# Altium footprint library Others_component.PcbLib: 4 footprints
Each footprint in its own frame and in the unit in brackets; x right, y up, seen from the top. Pads: shape width x height; smd on the part's side, far side on the other; paste and mask are expansions set on the pad; w line width, h text height; cw(c..) or ccw(c..) is an arc to the next point about the centre after c.
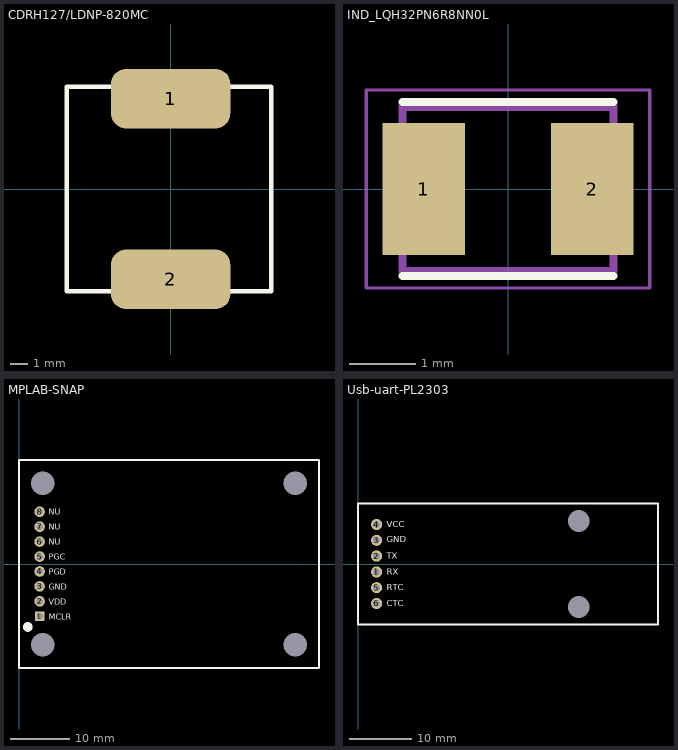
[diagram p0: the footprints below, top view; thin cyan lines are the x and y axes]

## CDRH127/LDNP-820MC [mm]
pads (2):
  rrect50% 7x3.5 smd: 1(0,5.3) 2(0,-5.3)
Top Overlay:
  pour cut-out: 0,0
  lines w0.254: 5.9,-6 -6.1,-6 -6.1,6 5.9,6 5.9,0 5.9,-6 ; 5.9,-6 5.9,-6

## IND_LQH32PN6R8NN0L [mm]
pads (2):
  rect 1.25x2 smd: 1(-1.275,0) 2(1.275,0)
Top Overlay:
  lines w0.127: -1.6,-1.32 1.6,-1.32 ; -1.6,1.32 1.6,1.32
Mechanical 13:
  lines w0.127: -1.6,-1.25 1.6,-1.25 1.6,1.25 -1.6,1.25 -1.6,-1.25
Mechanical 15:
  lines w0.05: -2.15,-1.5 2.15,-1.5 2.15,1.5 -2.15,1.5 -2.15,-1.5
3D body "step_temp.STEP": height 1.7, standoff 0, extent -1.6,-1.25 1.6,1.25

## MPLAB-SNAP [mm]
pads (12):
  rect 1.6x1.6 hole 1.1: 1(3.5,-8.89)
  round 1.8 hole 1.1: 2(3.5,-6.35) 3(3.5,-3.81) 4(3.5,-1.27) 5(3.5,1.27) 6(3.5,3.81) 7(3.5,6.35) 8(3.5,8.89)
  oval 0x2 hole 4 unplated: 11(4,-13.7) 11(4,13.7) 11(47,-13.7) 11(47,13.7)
Top Overlay:
  circle w0.8: c1.5,-10.7 r0.424
  lines w0.3: 0,-17.7 0,17.7 51,17.7 51,-17.7 0,-17.7
  text "NU" at 5.054,8.334 h1
  text "NU" at 5.054,5.794 h1
  text "NU" at 5.054,3.254 h1
  text "PGC" at 5.054,0.714 h1
  text "PGD" at 5.054,-1.826 h1
  text "GND" at 5.054,-4.366 h1
  text "VDD" at 5.054,-6.906 h1
  text "MCLR" at 5.054,-9.446 h1

## Usb-uart-PL2303 [mm]
pads (8):
  round 1.8 hole 1.1: 1(3,-1.27) 2(3,1.27) 3(3,3.81) 4(3,6.35) 5(3,-3.81) 6(3,-6.35)
  oval 0x3 hole 3.5 unplated: 9(35.5,-6.91)
  round 0 hole 3.5 unplated: 10(35.5,6.91)
Top Overlay:
  lines w0.3: 0,-9.755 48.26,-9.755 48.26,9.755 0,9.755 0,-9.755
  text "CTC" at 4.629,-6.776 h1
  text "RTC" at 4.629,-4.236 h1
  text "VCC" at 4.629,5.924 h1
  text "GND" at 4.629,3.484 h1
  text "TX" at 4.629,0.844 h1
  text "RX" at 4.629,-1.696 h1